# EAGLE library part MR25H256 (library hmcfabstudio)
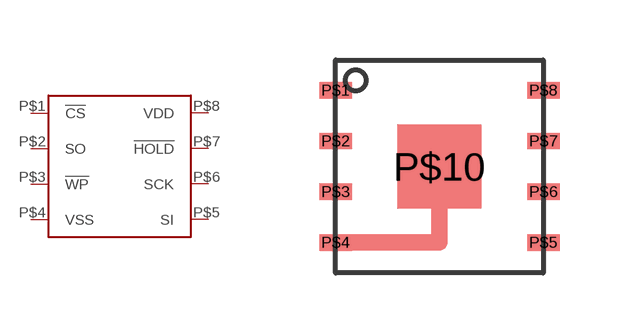
[diagram p2: symbol with the pads of DFN8; footprint DFN8]

Designator prefix -

## MR25H256  [DFN8]
P$1  !CS  in
P$2  SO  in
P$3  !WP  in
P$4  VSS  in
P$5  SI  in
P$6  SCK  in
P$7  !HOLD  in
P$8  VDD  in

## Footprint DFN8 (pad centres in mm)
smd 0.813 x 0.406: P$1 0,3.81; P$2 0,2.54; P$3 0,1.27; P$4 0,0; P$5 5.2,0; P$6 5.2,1.27; P$7 5.2,2.54; P$8 5.2,3.81
smd 2.1 x 2.1: P$10 2.6,1.9